# EAGLE library part JB (library switch-nkk)
JB Series - tact with LED backlight
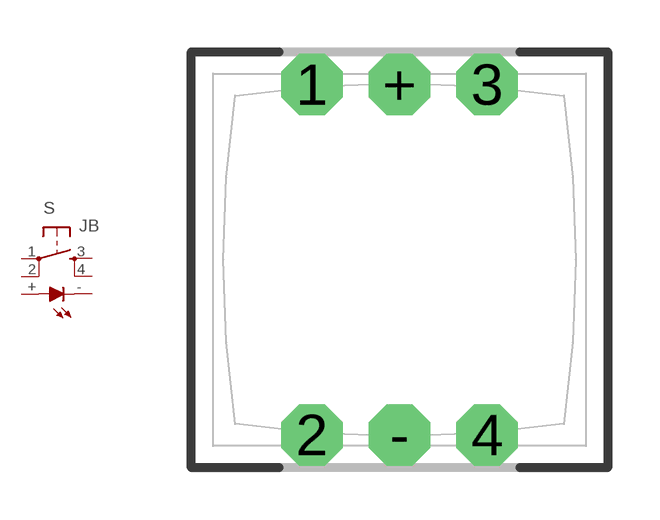
[diagram p0: symbol with the pads of JB; footprint JB]

Designator prefix S

## JB  [JB]
1  P  pas
2  P1  pas
3  S  pas
4  S1  pas
+  A  pas
-  C  pas

## Footprint JB (pad centres in mm)
JB Series - LED backlight
drill 1.016 pad 1.778 octagon: 1 -2.54,5.08; 2 -2.54,-5.08; 3 2.54,5.08; 4 2.54,-5.08; + 0,5.08; - 0,-5.08